# EAGLE library part SN65HVD230 (library mylib)
CAN PHY driver
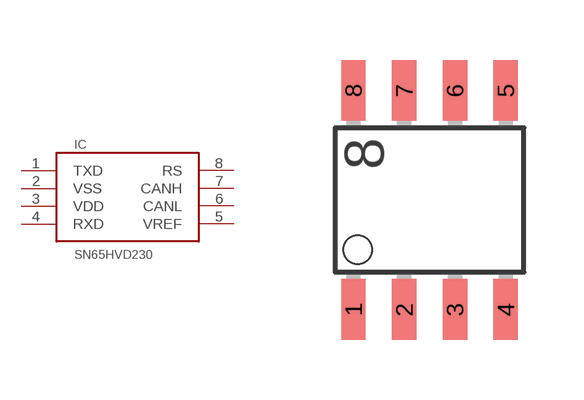
[diagram p1: symbol with the pads of SO8; footprint SO8]

Designator prefix IC

## SN65HVD230  [SO8]
1  TXD  in
2  VSS  pwr
3  VDD  pwr
4  RXD  out
5  VREF  pas
6  CANL
7  CANH
8  RS  in

## Footprint SO8 (pad centres in mm)
smd 0.61 x 1.524: 1 -1.27,-2.743; 2 0,-2.743; 3 1.27,-2.743; 4 2.54,-2.743; 5 2.54,2.743; 6 1.27,2.743; 7 0,2.743; 8 -1.27,2.743